# EAGLE library part SI7005 (library BQ25504)
Si7005 Digital I2C Humidity and Temperature Sensor
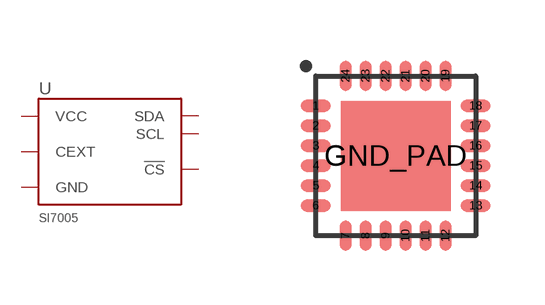
[diagram p2: symbol with the pads of QFN-24-4MM; footprint QFN-24-4MM]

Designator prefix U

## SI7005 (DIGIKEY: 336-2332-1-ND)  [QFN-24-4MM]
1  GND
3  SCL
4  SDA
8  GND
9  VCC
10  CEXT
11  GND
15  !CS
19  GND
GND_PAD  GND

## Footprint QFN-24-4MM (pad centres in mm)
4mm x 4mm QFN-24
smd 0.75 x 0.3: 1 -2,1.25; 2 -2,0.75; 3 -2,0.25; 4 -2,-0.25; 5 -2,-0.75; 6 -2,-1.25; 13 2,-1.25; 14 2,-0.75; 15 2,-0.25; 16 2,0.25; 17 2,0.75; 18 2,1.25
smd 0.3 x 0.75: 7 -1.25,-2; 8 -0.75,-2; 9 -0.25,-2; 10 0.25,-2; 11 0.75,-2; 12 1.25,-2; 19 1.25,2; 20 0.75,2; 21 0.25,2; 22 -0.25,2; 23 -0.75,2; 24 -1.25,2
smd 2.75 x 2.75: GND_PAD 0,0